# Altium footprint library PV Buck v2.PcbLib: 31 footprints (part 1 of 2)
Each footprint in its own frame and in the unit in brackets; x right, y up, seen from the top. Pads: shape width x height; smd on the part's side, far side on the other; paste and mask are expansions set on the pad; w line width, h text height; cw(c..) or ccw(c..) is an arc to the next point about the centre after c.
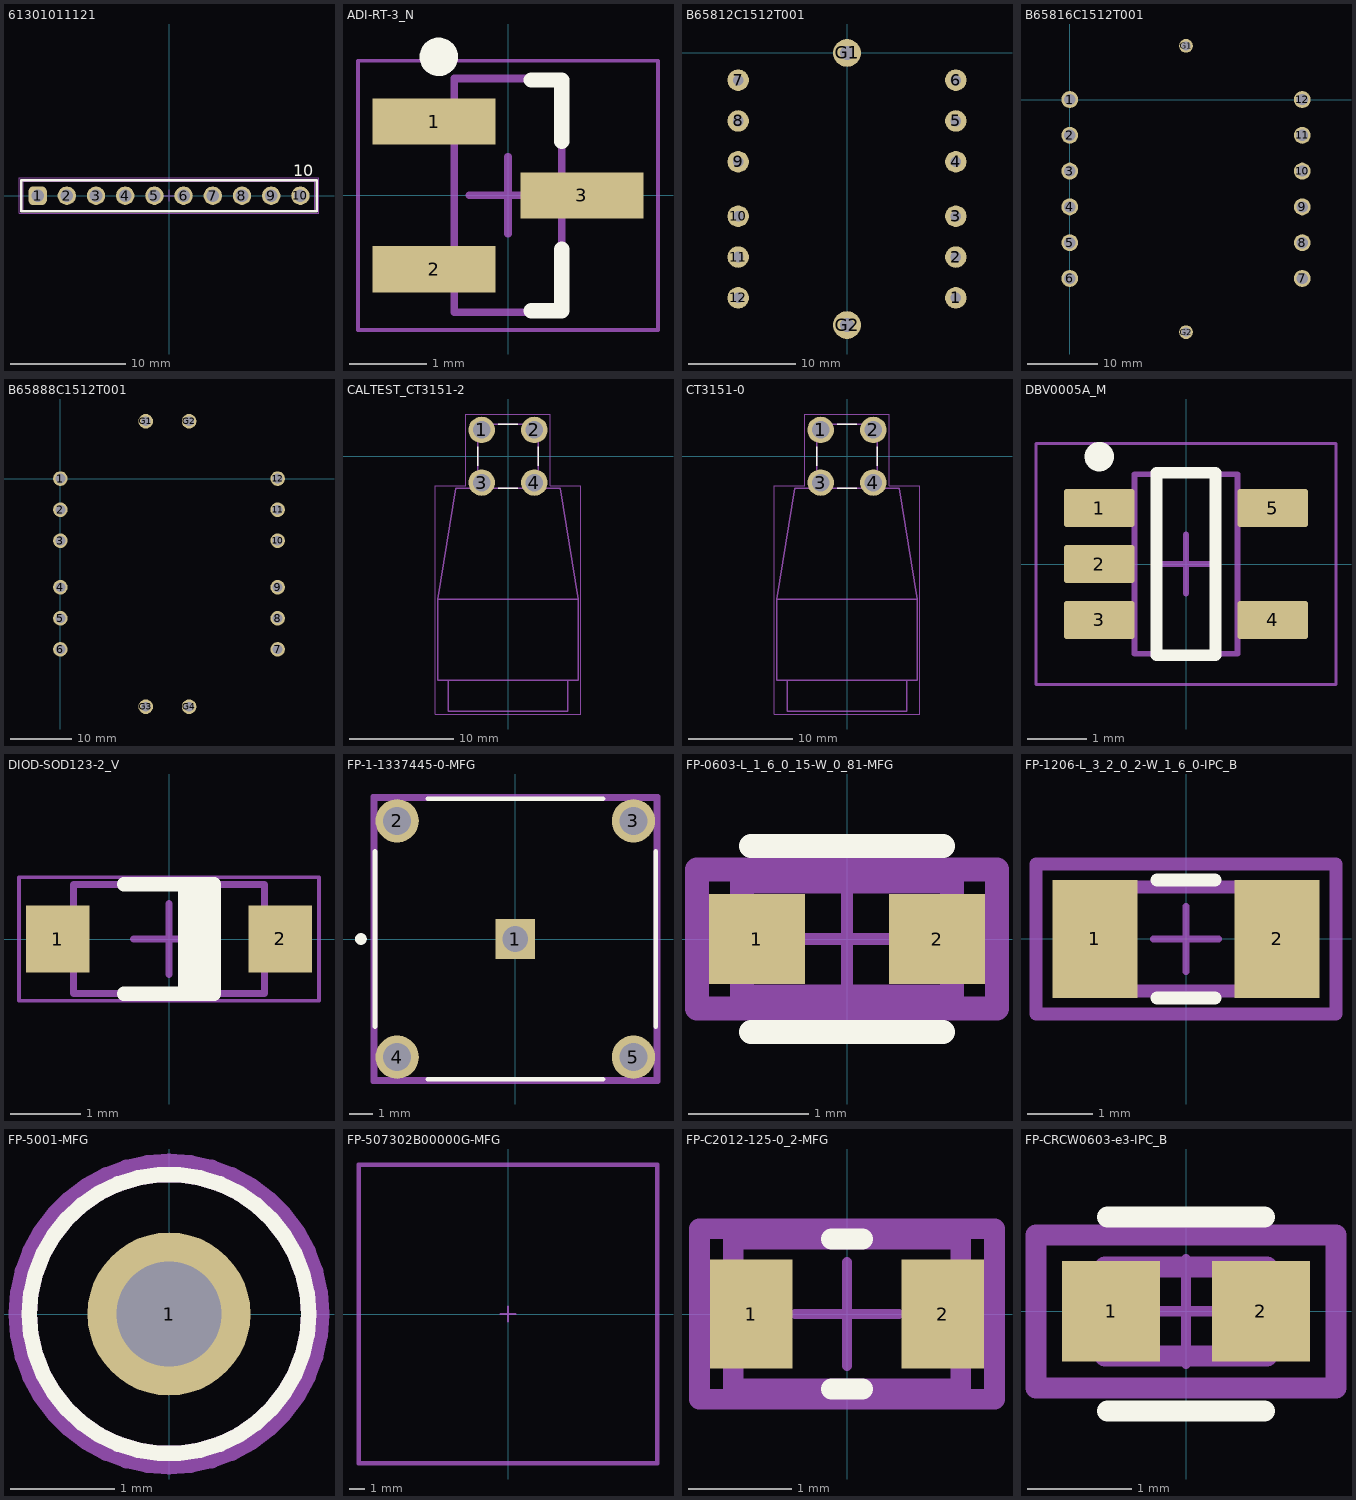
[diagram p0: the footprints below, top view; thin cyan lines are the x and y axes]

## 61301011121 [mm]
pads (10):
  rrect50% 1.6x1.6 hole 1.1: 1(-11.43,0)
  round 1.6 hole 1.1: 2(-8.89,0) 3(-6.35,0) 4(-3.81,0) 5(-1.27,0) 6(1.27,0) 7(3.81,0) 8(6.35,0) 9(8.89,0) 10(11.43,0)
Top Overlay:
  lines w0.2: -12.85,-1.345 12.85,-1.345 12.85,1.345 -12.85,1.345 -12.85,-1.345
  text "10" at 10.8,1.7 h1.02
Top Designator:
  text ".Designator" at -7.498,-0.5 h1.5
Top Component Outline:
  lines w0.1: -12.7,-1.27 -12.7,1.27 12.7,1.27 12.7,-1.27 -12.7,-1.27
Top 3D Body:
  lines w0.1: -12.7,-1.27 -12.7,1.27 12.7,1.27 12.7,-1.27 -12.7,-1.27
Top Courtyard:
  lines w0.05: -0.5,0 0.5,0 ; 0,-0.5 0,0.5 ; -13.05,-1.545 -13.05,1.545 13.05,1.545 13.05,-1.545 -13.05,-1.545
3D body "61301011121.stp": height 8.57, standoff -2.97, extent -12.7,-1.27 12.7,1.27

## ADI-RT-3_N [mm]
pads (3):
  rect 1.6x0.6 smd: 1(-0.96,0.96) 2(-0.96,-0.96) 3(0.96,0)
Top Overlay:
  circle w0.25: c-0.9,1.8 r0.125
  lines w0.2: 0.3,-1.5 0.7,-1.5 0.7,-0.7 ; 0.3,1.5 0.7,1.5 0.7,0.7
Top 3D Body:
  lines w0.1: -0.7,-1.52 -0.7,1.52 0.7,1.52 0.7,-1.52 -0.7,-1.52
Top Courtyard:
  lines w0.05: -1.95,-1.75 -1.95,1.75 1.95,1.75 1.95,-1.75 -1.95,-1.75
  lines w0.1: -0.5,0 0.5,0 ; 0,-0.5 0,0.5
3D body: height 1.12, standoff 0.01, extent -0.7,-1.52 0.7,1.52

## B65812C1512T001 [mm]
pads (14):
  round 2 hole 1: 1(10.16,-22.86) 2(10.16,-19.05) 3(10.16,-15.24) 4(10.16,-10.16) 5(10.16,-6.35) 6(10.16,-2.54) 7(-10.16,-2.54) 8(-10.16,-6.35) 9(-10.16,-10.16) 10(-10.16,-15.24) 11(-10.16,-19.05) 12(-10.16,-22.86)
  round 2.6 hole 1.3: G1(0,0) G2(0,-25.4)
3D body "c61035-a0028-b208_rm8_sw.step": height 15.1, standoff -5.35, extent -14.941,-24.321 14.859,0.508

## B65816C1512T001 [mm]
pads (14):
  round 2.4 hole 1.6: 1(0,0) 2(0,-5.08) 3(0,-10.16) 4(0,-15.24) 5(0,-20.32) 6(0,-25.4) 7(33.02,-25.4) 8(33.02,-20.32) 9(33.02,-15.24) 10(33.02,-10.16) 11(33.02,-5.08) 12(33.02,0)
  round 1.95 hole 1.3: G1(16.51,7.62) G2(16.51,-33.02)

## B65888C1512T001 [mm]
pads (16):
  round 2.4 hole 1.6: 1(0,0.01) 2(0,-5.08) 3(0,-10.15) 4(0,-17.78) 5(0,-22.86) 6(0,-27.94) 7(35.56,-27.94) 8(35.56,-22.86) 9(35.56,-17.78) 10(35.56,-10.15) 11(35.56,-5.08) 12(35.56,0.01) G1(13.97,9.38) G2(21.07,9.38) G3(13.97,-37.32) G4(21.07,-37.32)
3D body "c61035-a0044-b202_coil-former_rm14_sw.step": height 29, standoff -4.7, extent -6.42,-29.7 41.98,2.7

## CALTEST_CT3151-2 [mm]
pads (4):
  round 2.55 hole 1.7: 1(-2.54,2.54) 2(2.54,2.54) 3(-2.54,-2.54) 4(2.54,-2.54)
Top Overlay:
  lines w0.127: -2.9,-0.93 -2.9,0.93 ; -0.93,-3.1 0.93,-3.1 ; -0.93,3.1 0.93,3.1 ; 2.9,-0.93 2.9,0.93
Top 3D Body:
  lines w0.127: -6.75,-13.8 6.75,-13.8 ; -6.75,-13.8 -6.75,-21.6 -5.75,-21.6 ; -6.75,-13.8 -5.05,-3.1 5.05,-3.1 6.75,-13.8 ; -5.75,-21.6 5.75,-21.6 ; -5.75,-21.6 -5.75,-24.6 5.75,-24.6 5.75,-21.6 ; 5.75,-21.6 6.75,-21.6 6.75,-13.8 ; -2.9,-3.1 2.9,-3.1 2.9,3.1 -2.9,3.1 -2.9,-3.1
Top Courtyard:
  lines w0.05: -7,-24.85 7,-24.85 7,-2.85 4.07,-2.85 4.07,4.07 -4.07,4.07 -4.07,-2.85 -7,-2.85 -7,-24.85
3D body "step_temp.STEP": height 19.44, standoff -2.95, extent -6.623,-24.525 6.877,3.175

## CT3151-0 [mm]
pads (4):
  round 2.55 hole 1.7: 1(-2.54,2.54) 2(2.54,2.54) 3(-2.54,-2.54) 4(2.54,-2.54)
Top Overlay:
  lines w0.127: -2.9,-0.93 -2.9,0.93 ; -0.93,-3.1 0.93,-3.1 ; -0.93,3.1 0.93,3.1 ; 2.9,-0.93 2.9,0.93
Top 3D Body:
  lines w0.127: -6.75,-13.8 6.75,-13.8 ; -6.75,-13.8 -6.75,-21.6 -5.75,-21.6 ; -6.75,-13.8 -5.05,-3.1 5.05,-3.1 6.75,-13.8 ; -5.75,-21.6 5.75,-21.6 ; -5.75,-21.6 -5.75,-24.6 5.75,-24.6 5.75,-21.6 ; 5.75,-21.6 6.75,-21.6 6.75,-13.8 ; -2.9,-3.1 2.9,-3.1 2.9,3.1 -2.9,3.1 -2.9,-3.1
Top Courtyard:
  lines w0.05: -7,-24.85 7,-24.85 7,-2.85 4.07,-2.85 4.07,4.07 -4.07,4.07 -4.07,-2.85 -7,-2.85 -7,-24.85
3D body "step_temp.STEP": height 19.44, standoff -2.95, extent -6.623,-24.525 6.877,3.175

## DBV0005A_M [mm]
pads (5):
  rrect15% 1.2x0.65 smd: 1(-1.475,0.95) 2(-1.475,0) 3(-1.475,-0.95) 4(1.475,-0.95) 5(1.475,0.95)
Top Overlay:
  circle w0.25: c-1.475,1.825 r0.125
  lines w0.2: -0.5,-1.55 0.5,-1.55 0.5,1.55 -0.5,1.55 -0.5,-1.55
Mechanical 1:
  text ".Designator" at -0.635,-0.127 h0.4
Top 3D Body:
  lines w0.1: -0.875,-1.525 -0.875,1.525 0.875,1.525 0.875,-1.525 -0.875,-1.525
Top Courtyard:
  lines w0.05: -2.55,-2.05 -2.55,2.05 2.55,2.05 2.55,-2.05 -2.55,-2.05
  lines w0.1: -0.5,0 0.5,0 ; 0,-0.5 0,0.5
3D body "DBV0005AaksMF05A.stp": height 1.08, standoff -0.01, extent -1.422,-1.461 1.422,1.46

## DIOD-SOD123-2_V [mm]
pads (2):
  rect 0.9x0.95 smd: 1(-1.575,0) 2(1.575,0)
Top Overlay:
  rectangle: 0.127,-0.825 0.635,0.762
  lines w0.2: -0.635,-0.775 0.635,-0.775 0.635,0.775 -0.635,0.775
Top 3D Body:
  lines w0.1: -1.35,-0.775 -1.35,0.775 1.35,0.775 1.35,-0.775 -1.35,-0.775
Top Courtyard:
  lines w0.05: -2.125,-0.875 -2.125,0.875 2.125,0.875 2.125,-0.875 -2.125,-0.875
  lines w0.1: -0.5,0 0.5,0 ; 0,-0.5 0,0.5
3D body: height 1.45, standoff 0, extent -1.35,-0.775 1.35,0.775

## FP-1-1337445-0-MFG [mm]
pads (5):
  rect 1.7x1.7 hole 1.1 paste-2539.97 mask+0: 1(0,0)
  round 1.85 hole 1.2 paste-2539.97 mask+0: 2(-5.05,5.05) 3(5.05,5.05) 4(-5.05,-5.05) 5(5.05,-5.05)
Top Overlay:
  circle w0.25: c-6.6,0 r0.125
  lines w0.2: -6,-3.75 -6,3.75 ; -3.75,-6 3.75,-6 ; -3.75,6 3.75,6 ; 6,-3.75 6,3.75
Top Assembly:
  lines w0.2: -6.1,-6.1 -6.1,6.1 6.1,6.1 6.1,-6.1 -6.1,-6.1
  text ".Designator" at 0,0.188 h1
Top 3D Body:
  lines w0.2: -6,-6 -6,6 6,6 6,-6 -6,-6
Top Courtyard:
  lines w0.2: -6.1,-6.1 -6.1,6.1 6.1,6.1 6.1,-6.1 -6.1,-6.1
Top Component Center:
  lines w0.1: -0.5,0 0.5,0 ; 0,-0.5 0,0.5
3D body "Conn_TE_Connectivity_1-1337445-0_eec.STEP": height 0.25, standoff 0, extent -6.1,-6.1 6.1,6.1

## FP-0603-L_1_6_0_15-W_0_81-MFG [mm]
pads (2):
  rect 0.8x0.75 smd paste+0 mask+0: 1(-0.75,0) 2(0.75,0)
Top Overlay:
  lines w0.2: -0.8,-0.775 0.8,-0.775 ; -0.8,0.775 0.8,0.775
Top Assembly:
  lines w0.2: -1.25,-0.58 1.25,-0.58 1.25,0.58 -1.25,0.58 -1.25,-0.58
  text ".Designator" at 0,0.188 h1
Top 3D Body:
  lines w0.2: -0.875,-0.48 0.875,-0.48 0.875,0.48 -0.875,0.48 -0.875,-0.48
Top Courtyard:
  lines w0.2: -1.25,-0.58 1.25,-0.58 1.25,0.58 -1.25,0.58 -1.25,-0.58
Top Component Center:
  lines w0.1: -0.5,0 0.5,0 ; 0,-0.5 0,0.5
3D body "Cap_AVX_0603YA0R5BAT2A_eec.STEP": height 0.25, standoff 0, extent -1.25,-0.58 1.25,0.58

## FP-1206-L_3_2_0_2-W_1_6_0-IPC_B [mm]
pads (2):
  rect 1.305x1.806 smd paste+0 mask+0: 1(-1.401,0) 2(1.401,0)
Top Overlay:
  lines w0.2: -0.448,-0.903 0.448,-0.903 ; -0.448,0.903 0.448,0.903
Top Assembly:
  lines w0.2: -2.303,-1.153 2.303,-1.153 2.303,1.153 -2.303,1.153 -2.303,-1.153
  text ".Designator" at 0,0.188 h1
Top 3D Body:
  lines w0.2: -1.6,-0.8 1.6,-0.8 1.6,0.8 -1.6,0.8 -1.6,-0.8
Top Courtyard:
  lines w0.2: -2.303,-1.153 2.303,-1.153 2.303,1.153 -2.303,1.153 -2.303,-1.153
Top Component Center:
  lines w0.1: -0.5,0 0.5,0 ; 0,-0.5 0,0.5
3D body "Cap_AVX_12065C475KAT2A_eec.STEP": height 0.25, standoff 0, extent -2.303,-1.153 2.303,1.153

## FP-5001-MFG [mm]
pads (1):
  round 1.57 hole 1.016 paste-2539.97 mask+0: 1(0,0)
Top Overlay:
  circle w0.15: c0,0 r1.345
Top Assembly:
  text ".Designator" at 0,0.188 h1
Top 3D Body:
  circle w0.15: c0,0 r1.345
Top Courtyard:
  lines w0.2: -1.445,0 cw(c0,0) 1.445,0 cw(c0,0) -1.445,0
Top Component Center:
  lines w0.1: -0.5,0 0.5,0 ; 0,-0.5 0,0.5
3D body "Conn_Keystone_5001_eec.STEP": height 0.25, standoff 0, extent -1.445,-1.445 1.445,1.445

## FP-507302B00000G-MFG [mm]
Top Assembly:
  lines w0.2: -9.625,-9.625 -9.625,9.625 9.625,9.625 9.625,-9.625 -9.625,-9.625
Top 3D Body:
  lines w0.2: -9.525,-9.525 -9.525,9.525 9.525,9.525 9.525,-9.525 -9.525,-9.525
Top Courtyard:
  lines w0.2: -9.625,-9.625 -9.625,9.625 9.625,9.625 9.625,-9.625 -9.625,-9.625
Top Component Center:
  lines w0.1: -0.5,0 0.5,0 ; 0,-0.5 0,0.5
3D body "UNK_Aavid_Thermalloy_507302B00000G_eec.STEP": height 22.22, standoff 3.17, extent -9.525,-9.65 9.525,0

## FP-C2012-125-0_2-MFG [mm]
pads (2):
  rect 0.8x1.05 smd paste+0 mask+0: 1(-0.925,0) 2(0.925,0)
Top Overlay:
  lines w0.2: -0.15,-0.725 0.15,-0.725 ; -0.15,0.725 0.15,0.725
Top Assembly:
  lines w0.2: -1.425,-0.825 1.425,-0.825 1.425,0.825 -1.425,0.825 -1.425,-0.825
  text ".Designator" at 0,0.188 h1
Top 3D Body:
  lines w0.2: -1.1,-0.725 1.1,-0.725 1.1,0.725 -1.1,0.725 -1.1,-0.725
Top Courtyard:
  lines w0.2: -1.425,-0.825 1.425,-0.825 1.425,0.825 -1.425,0.825 -1.425,-0.825
Top Component Center:
  lines w0.1: -0.5,0 0.5,0 ; 0,-0.5 0,0.5
3D body "Cap_TDK_C2012X7R1E474K125AA_eec.STEP": height 0.25, standoff 0, extent -1.425,-0.825 1.425,0.825

## FP-CRCW0603-e3-IPC_B [mm]
pads (2):
  rect 0.935x0.962 smd paste+0 mask+0: 1(-0.715,0) 2(0.715,0)
Top Overlay:
  lines w0.2: -0.75,-0.95 0.75,-0.95 ; -0.75,0.9 0.75,0.9
Top Assembly:
  lines w0.2: -1.433,-0.731 1.433,-0.731 1.433,0.731 -1.433,0.731 -1.433,-0.731
  text ".Designator" at 0,0.188 h1
Top 3D Body:
  lines w0.2: -0.775,-0.425 0.775,-0.425 0.775,0.425 -0.775,0.425 -0.775,-0.425
Top Courtyard:
  lines w0.2: -1.433,-0.731 1.433,-0.731 1.433,0.731 -1.433,0.731 -1.433,-0.731
Top Component Center:
  lines w0.1: -0.5,0 0.5,0 ; 0,-0.5 0,0.5
3D body "Res_Vishay_CRCW06033M90FKEC_eec.STEP": height 0.25, standoff 0, extent -1.433,-0.731 1.433,0.731